# Altium schematic symbol library Boards.SchLib: 2 symbols
Pins are listed as number, name and electrical type; pins without a type are passive.

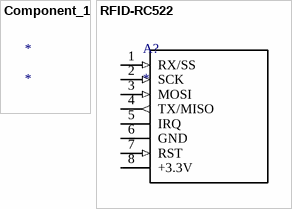
[diagram p0: symbols Component_1 to RFID-RC522]

## Component_1
designator *

## RFID-RC522
designator A?
footprint RFID-RC522(var1)
footprint RFID-RC522(var2)
pins: 1 RX/SS (in), 2 SCK (in), 3 MOSI (in), 4 TX/MISO (out), 5 IRQ (oc), 6 GND (power), 7 RST (in), 8 +3.3V (power)